# Altium footprint library SM13B-GHS-TB(LF)(SN).PcbLib: 1 footprints
Each footprint in its own frame and in the unit in brackets; x right, y up, seen from the top. Pads: shape width x height; smd on the part's side, far side on the other; paste and mask are expansions set on the pad; w line width, h text height; cw(c..) or ccw(c..) is an arc to the next point about the centre after c.
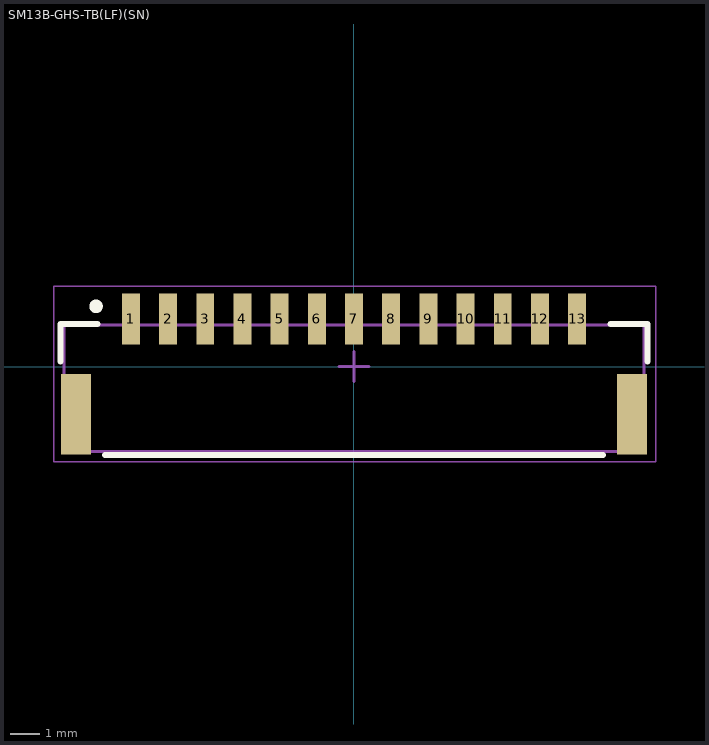
[diagram p0: the footprint, top view; thin cyan lines are the x and y axes]

## SM13B-GHS-TB(LF)(SN) [mm]
pads (15):
  rect 0.6x1.7 smd: 1(-7.5,1.6) 2(-6.25,1.6) 3(-5,1.6) 4(-3.75,1.6) 5(-2.5,1.6) 6(-1.25,1.6) 7(0,1.6) 8(1.25,1.6) 9(2.5,1.6) 10(3.75,1.6) 11(5,1.6) 12(6.25,1.6) 13(7.5,1.6)
  rect 1x2.7 smd: ""(-9.35,-1.6) ""(9.35,-1.6)
Top Overlay:
  circle w0.254: c-8.675,2.025 r0.1
  lines w0.2: -9.875,0.175 -9.875,1.425 -8.625,1.425 ; -8.375,-2.975 8.375,-2.975 ; 8.625,1.425 9.875,1.425 9.875,0.175
Mechanical 1:
  lines w0.1: -9.75,-2.85 -9.75,1.4 9.75,1.4 9.75,-2.85 -9.75,-2.85
  text ".Designator" at -3.374,-1.458 h0.65
Mechanical 2:
  lines w0.05: -10.1,-3.2 10.15,-3.2 10.15,2.7 -10.1,2.7 -10.1,-3.2
  lines w0.1: -0.5,0 0.5,0 ; 0,-0.5 0,0.5
3D body "SM13B-GHS-TB.STEP": height 4.35, standoff 0, extent -9.75,-2.85 9.75,2